# EAGLE library part ADAFRUIT-UDA1334-I2S-DAC_MICROBUILDER_AUDIO_I2S_UDA1334 (library new_esplay)
UDA1334 I2C Audio DAC Power Supply: 2.4-3.6V Sample frequencies from 16-100kHz
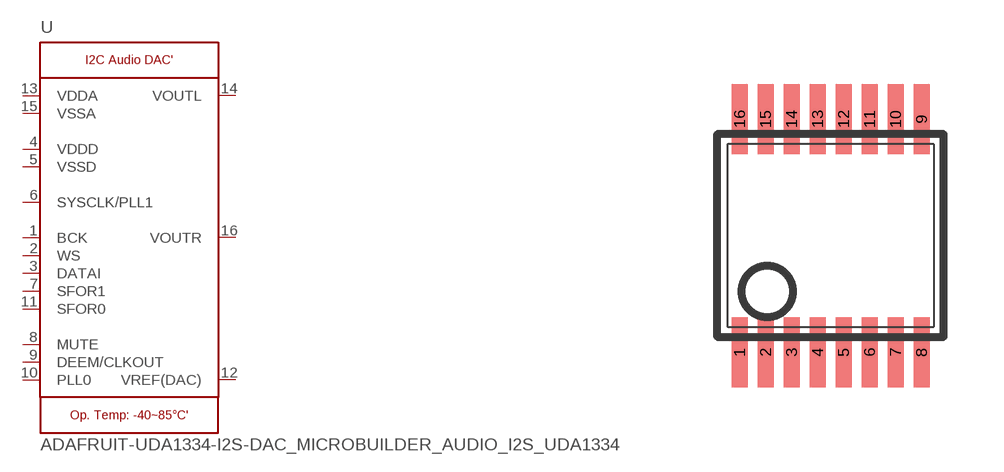
[diagram p0: symbol with the pads of ADAFRUIT-UDA1334-I2S-DAC_MICROBUILDER_SSOP16_4.4MM; footprint ADAFRUIT-UDA1334-I2S-DAC_MICROBUILDER_SSOP16_4.4MM]

Designator prefix U

## ADAFRUIT-UDA1334-I2S-DAC_MICROBUILDER_AUDIO_I2S_UDA1334""  [ADAFRUIT-UDA1334-I2S-DAC_MICROBUILDER_SSOP16_4.4MM]
1  BCK  in
2  WS  in
3  DATAI  in
4  VDDD  pwr
5  VSSD  pwr
6  SYSCLK/PLL1  in
7  SFOR1  in
8  MUTE  in
9  DEEM/CLKOUT
10  PLL0  in
11  SFOR0  in
12  VREF(DAC)  out
13  VDDA  pwr
14  VOUTL  out
15  VSSA  pwr
16  VOUTR  out

## Footprint ADAFRUIT-UDA1334-I2S-DAC_MICROBUILDER_SSOP16_4.4MM (pad centres in mm)
smd 0.4 x 1.75: 1 -2.275,-2.92; 2 -1.625,-2.92; 3 -0.975,-2.92; 4 -0.325,-2.92; 5 0.325,-2.92; 6 0.975,-2.92; 7 1.625,-2.92; 8 2.275,-2.92; 9 2.275,2.92; 10 1.625,2.92; 11 0.975,2.92; 12 0.325,2.92; 13 -0.325,2.92; 14 -0.975,2.92; 15 -1.625,2.92; 16 -2.275,2.92